# Altium schematic symbol library Microcontroller.SchLib: 8 symbols
Pins are listed as number, name and electrical type; pins without a type are passive.

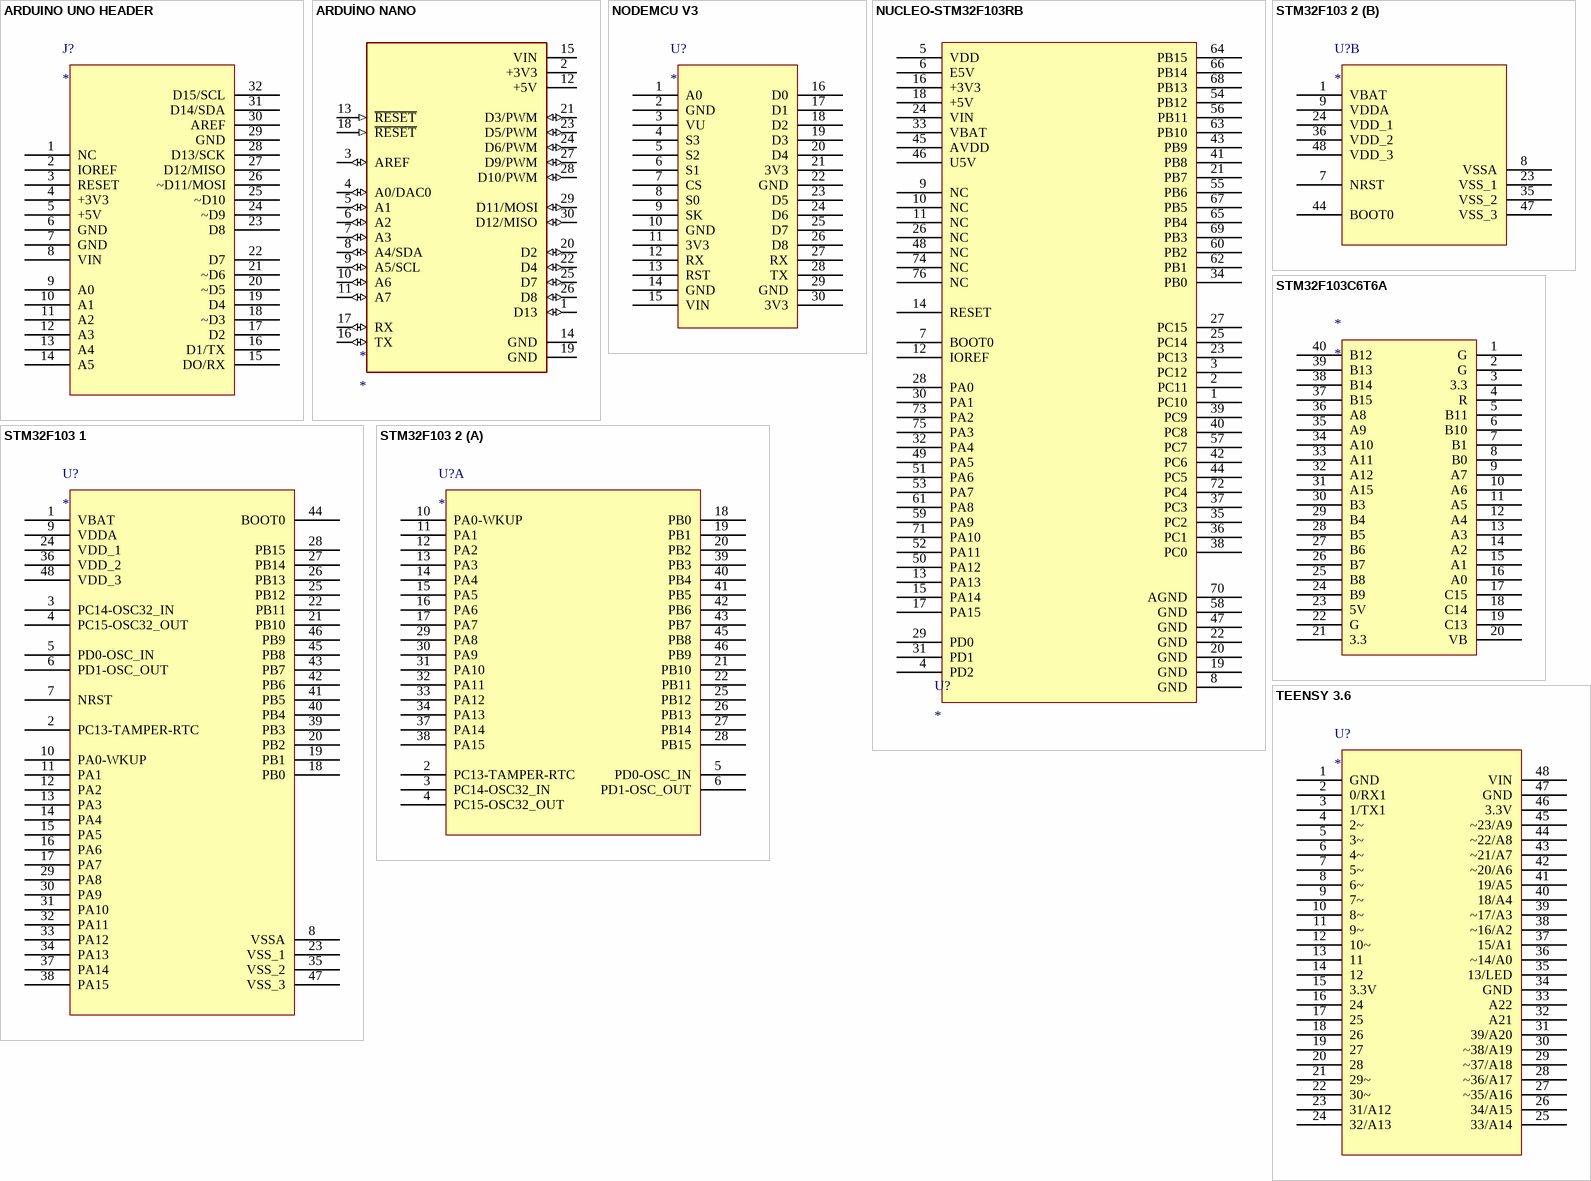
[diagram p0: symbols ARDUINO UNO HEADER to TEENSY 3.6]

## ARDUINO UNO HEADER
designator J?
footprint ARDUINO UNO HEADER
pins: 1 NC, 2 IOREF, 3 RESET, 4 +3V3, 5 +5V, 6 GND, 7 GND, 8 VIN, 9 A0, 10 A1, 11 A2, 12 A3, 13 A4, 14 A5, 15 DO/RX, 16 D1/TX, 17 D2, 18 ~D3, 19 D4, 20 ~D5, 21 ~D6, 22 D7, 23 D8, 24 ~D9, 25 ~D10, 26 ~D11/MOSI, 27 D12/MISO, 28 D13/SCK, 29 GND, 30 AREF, 31 D14/SDA, 32 D15/SCL

## ARDUİNO NANO
designator *
footprint ARDUİNO NANO
pins: 1 D13 (io), 2 +3V3 (power), 3 AREF (io), 4 A0/DAC0 (io), 5 A1 (io), 6 A2 (io), 7 A3 (io), 8 A4/SDA (io), 9 A5/SCL (io), 10 A6 (io), 11 A7 (io), 12 +5V (power), 13 ~{RESET} (in), 14 GND (power), 15 VIN (power), 16 TX (io), 17 RX (io), 18 ~{RESET} (in), 19 GND (power), 20 D2 (io), 21 D3/PWM (io), 22 D4 (io), 23 D5/PWM (io), 24 D6/PWM (io), 25 D7 (io), 26 D8 (io), 27 D9/PWM (io), 28 D10/PWM (io), 29 D11/MOSI (io), 30 D12/MISO (io)

## NODEMCU V3
designator U?
NodeMCU V3 ESP8266
footprint NODEMCU V3 (NodeMCU V3 ESP8266)
pins: 1 A0, 2 GND, 3 VU, 4 S3, 5 S2, 6 S1, 7 CS, 8 S0, 9 SK, 10 GND, 11 3V3, 12 RX, 13 RST, 14 GND, 15 VIN, 16 D0, 17 D1, 18 D2, 19 D3, 20 D4, 21 3V3, 22 GND, 23 D5, 24 D6, 25 D7, 26 D8, 27 RX, 28 TX, 29 GND, 30 3V3

## NUCLEO-STM32F103RB
designator U?
footprint NUCLEO-STM32F103RB
pins: 1 PC10, 2 PC11, 3 PC12, 4 PD2, 5 VDD, 6 E5V, 7 BOOT0, 8 GND, 9 NC, 10 NC, 11 NC, 12 IOREF, 13 PA13, 14 RESET, 15 PA14, 16 +3V3, 17 PA15, 18 +5V, 19 GND, 20 GND, 21 PB7, 22 GND, 23 PC13, 24 VIN, 25 PC14, 26 NC, 27 PC15, 28 PA0, 29 PD0, 30 PA1, 31 PD1, 32 PA4, 33 VBAT, 34 PB0, 35 PC2, 36 PC1, 37 PC3, 38 PC0, 39 PC9, 40 PC8, 41 PB8, 42 PC6, 43 PB9, 44 PC5, 45 AVDD, 46 U5V, 47 GND, 48 NC, 49 PA5, 50 PA12, 51 PA6, 52 PA11, 53 PA7, 54 PB12, 55 PB6, 56 PB11, 57 PC7, 58 GND, 59 PA9, 60 PB2, 61 PA8, 62 PB1, 63 PB10, 64 PB15, 65 PB4, 66 PB14, 67 PB5, 68 PB13, 69 PB3, 70 AGND, 71 PA10, 72 PC4, 73 PA2, 74 NC, 75 PA3, 76 NC

## STM32F103 1
designator U?
footprint LQFP48 (TSQFP, 48-Leads, Body 7,00x7,00mm, Pitch 0,50mm, IPC Medium Density)
pins: 1 VBAT, 2 PC13-TAMPER-RTC, 3 PC14-OSC32_IN, 4 PC15-OSC32_OUT, 5 PD0-OSC_IN, 6 PD1-OSC_OUT, 7 NRST, 8 VSSA, 9 VDDA, 10 PA0-WKUP, 11 PA1, 12 PA2, 13 PA3, 14 PA4, 15 PA5, 16 PA6, 17 PA7, 18 PB0, 19 PB1, 20 PB2, 21 PB10, 22 PB11, 23 VSS_1, 24 VDD_1, 25 PB12, 26 PB13, 27 PB14, 28 PB15, 29 PA8, 30 PA9, 31 PA10, 32 PA11, 33 PA12, 34 PA13, 35 VSS_2, 36 VDD_2, 37 PA14, 38 PA15, 39 PB3, 40 PB4, 41 PB5, 42 PB6, 43 PB7, 44 BOOT0, 45 PB8, 46 PB9, 47 VSS_3, 48 VDD_3

## STM32F103 2
designator U?
footprint LQFP48 (TSQFP, 48-Leads, Body 7,00x7,00mm, Pitch 0,50mm, IPC Medium Density)
part A pins: 2 PC13-TAMPER-RTC, 3 PC14-OSC32_IN, 4 PC15-OSC32_OUT, 5 PD0-OSC_IN, 6 PD1-OSC_OUT, 10 PA0-WKUP, 11 PA1, 12 PA2, 13 PA3, 14 PA4, 15 PA5, 16 PA6, 17 PA7, 18 PB0, 19 PB1, 20 PB2, 21 PB10, 22 PB11, 25 PB12, 26 PB13, 27 PB14, 28 PB15, 29 PA8, 30 PA9, 31 PA10, 32 PA11, 33 PA12, 34 PA13, 37 PA14, 38 PA15, 39 PB3, 40 PB4, 41 PB5, 42 PB6, 43 PB7, 45 PB8, 46 PB9
part B pins: 1 VBAT, 7 NRST, 8 VSSA, 9 VDDA, 23 VSS_1, 24 VDD_1, 35 VSS_2, 36 VDD_2, 44 BOOT0, 47 VSS_3, 48 VDD_3

## STM32F103C6T6A
designator *
footprint STM32F103C6T6A
pins: 1 G, 2 G, 3 3.3, 4 R, 5 B11, 6 B10, 7 B1, 8 B0, 9 A7, 10 A6, 11 A5, 12 A4, 13 A3, 14 A2, 15 A1, 16 A0, 17 C15, 18 C14, 19 C13, 20 VB, 21 3.3, 22 G, 23 5V, 24 B9, 25 B8, 26 B7, 27 B6, 28 B5, 29 B4, 30 B3, 31 A15, 32 A12, 33 A11, 34 A10, 35 A9, 36 A8, 37 B15, 38 B14, 39 B13, 40 B12

## TEENSY 3.6
designator U?
ComponentLink1Description: Teensy® 3.6 Development Board; ComponentLink1URL: https://www.pjrc.com/store/teensy36.html
footprint Teensy 3.6
pins: 1 GND, 2 0/RX1, 3 1/TX1, 4 2~, 5 3~, 6 4~, 7 5~, 8 6~, 9 7~, 10 8~, 11 9~, 12 10~, 13 11, 14 12, 15 3.3V, 16 24, 17 25, 18 26, 19 27, 20 28, 21 29~, 22 30~, 23 31/A12, 24 32/A13, 25 33/A14, 26 34/A15, 27 ~35/A16, 28 ~36/A17, 29 ~37/A18, 30 ~38/A19, 31 39/A20, 32 A21, 33 A22, 34 GND, 35 13/LED, 36 ~14/A0, 37 15/A1, 38 ~16/A2, 39 ~17/A3, 40 18/A4, 41 19/A5, 42 ~20/A6, 43 ~21/A7, 44 ~22/A8, 45 ~23/A9, 46 3.3V, 47 GND, 48 VIN